# Altium footprint library gersh.PcbLib: 6 footprints
Each footprint in its own frame and in the unit in brackets; x right, y up, seen from the top. Pads: shape width x height; smd on the part's side, far side on the other; paste and mask are expansions set on the pad; w line width, h text height; cw(c..) or ccw(c..) is an arc to the next point about the centre after c.
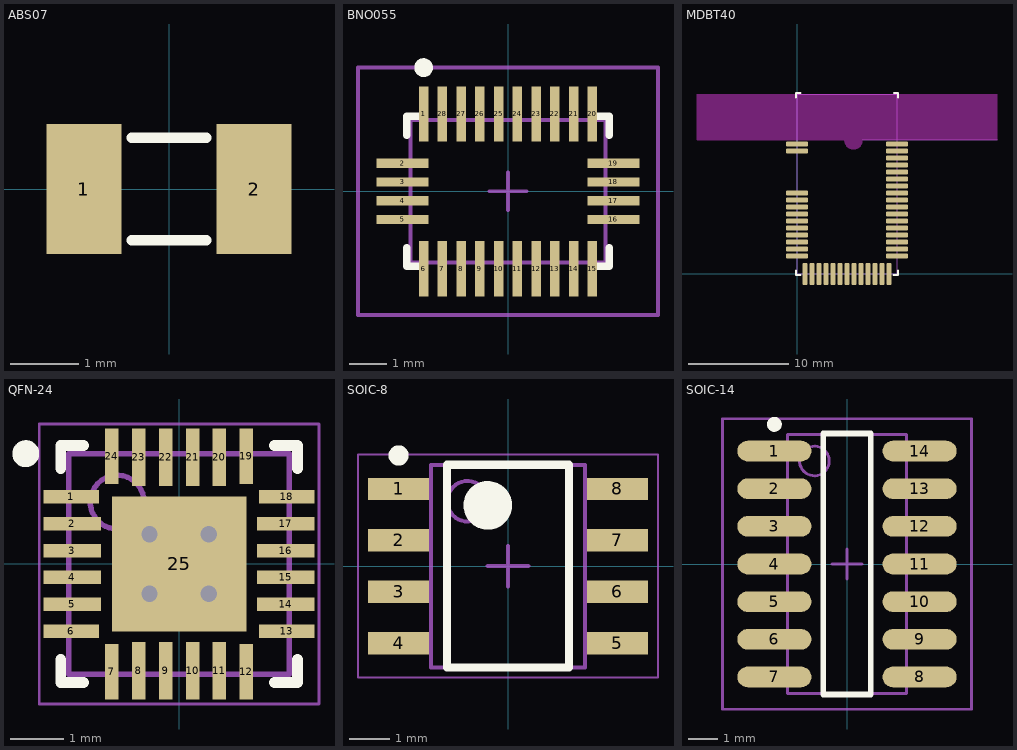
[diagram p0: the footprints below, top view; thin cyan lines are the x and y axes]

## ABS07 [mm] "Crystal Oscillator"
height 0.9
pads (2):
  rect 1.1x1.9 smd: 1(-1.25,0) 2(1.25,0)
Top Overlay:
  lines w0.152: -0.55,-0.75 0.55,-0.75 ; -0.55,0.75 0.55,0.75
3D body "TXC_Crystal.STEP": height 0.72, standoff 0, extent -1.6,-0.75 1.6,0.75

## BNO055 [mm] "28-Leads, Body 5.2x3.8mm, Pitch 0.5mm"
height 1
pads (28):
  rect 0.25x1.475 smd: 1(-2.25,2.063) 6(-2.25,-2.063) 7(-1.75,-2.063) 8(-1.25,-2.063) 9(-0.75,-2.063) 10(-0.25,-2.063) 11(0.25,-2.063) 12(0.75,-2.063) 13(1.25,-2.063) 14(1.75,-2.063) 15(2.25,-2.063) 20(2.25,2.063) 21(1.75,2.063) 22(1.25,2.063) 23(0.75,2.063) 24(0.25,2.063) 25(-0.25,2.063) 26(-0.75,2.063) 27(-1.25,2.063) 28(-1.75,2.063)
  rect 1.375x0.25 smd: 2(-2.813,0.75) 3(-2.813,0.25) 4(-2.813,-0.25) 5(-2.813,-0.75) 16(2.813,-0.75) 17(2.813,-0.25) 18(2.813,0.25) 19(2.813,0.75)
Top Overlay:
  circle w0.25: c-2.25,3.3 r0.125
  lines w0.2: -2.7,-1.5 -2.7,-2 -2.3,-2 ; -2.7,1.5 -2.7,2 -2.3,2 ; 2.3,-2 2.7,-2 2.7,-1.5 ; 2.3,2 2.7,2 2.7,1.5
Mechanical 13:
  lines w0.1: -2.6,-1.9 -2.6,1.9 2.6,1.9 2.6,-1.9 -2.6,-1.9
Mechanical 15:
  lines w0.1: -0.5,0 0.5,0 ; 0,-0.5 0,0.5 ; -4,-3.3 4,-3.3 4,3.3 -4,3.3 -4,-3.3
3D body: height 1.18, standoff 0.18, extent -2.575,-1.9 2.6,1.9

## MDBT40 [mm] "nRF51822 module"
height 2
pads (42):
  rrect50% 2.2x0.5 smd: 1(0,13) 2(0,12.3) 3(0,8.1) 4(0,7.4) 5(0,6.7) 6(0,6) 7(0,5.3) 8(0,4.6) 9(0,3.9) 10(0,3.2) 11(0,2.5) 12(0,1.8) 26(10,1.8) 27(10,2.5) 28(10,3.2) 29(10,3.9) 30(10,4.6) 31(10,5.3) 32(10,6) 33(10,6.7) 34(10,7.4) 35(10,8.1) 36(10,8.8) 37(10,9.5) 38(10,10.2) 39(10,10.9) 40(10,11.6) 41(10,12.3) 42(10,13)
  rrect50% 0.5x2.2 smd: 13(0.8,0) 14(1.5,0) 15(2.2,0) 16(2.9,0) 17(3.6,0) 18(4.3,0) 19(5,0) 20(5.7,0) 21(6.4,0) 22(7.1,0) 23(7.8,0) 24(8.5,0) 25(9.2,0)
Top Overlay:
  lines w0.2: -0.1,0.325 -0.1,-0.1 0.325,-0.1 ; -0.1,17.675 -0.1,18.1 0.325,18.1 ; 9.675,-0.1 10.1,-0.1 10.1,0.325 ; 9.675,18.1 10.1,18.1 10.1,17.675
Keep-Out Layer:
  pour cut-out: -10,13.4 4.75,13.4 4.75,13.282 4.811,13.053 4.93,12.847 5.097,12.68 5.303,12.561 5.532,12.5 5.768,12.5 5.997,12.561 6.203,12.68 6.37,12.847 6.489,13.053 6.55,13.282 6.55,13.4 20,13.4 20,18 -10,18
  lines w0.1: -10,13.4 -10,18 ; 4.75,13.4 ccw(c5.65,13.4) 6.55,13.4 ; 20,13.4 20,18
Keep-Out Layer:
  lines w0.1: -10,13.4 4.75,13.4 ; -10,18 20,18
Mechanical 13:
  lines w0.1: 6.55,13.4 20,13.4 ; 0,0 10,0 10,18 0,18 0,0
3D body "MDBT40 Bluetooth.step": height 3.01, standoff -0.01, extent 0,0 10,18

## QFN-24 [mm] "QFN 24-Leads IPC Medium, modified slightly"
height 0.85
pads (25):
  rect 1.029x0.25 smd: 1(-2.002,1.25) 6(-2.002,-1.25) 13(2.002,-1.25) 18(2.002,1.25)
  rect 1.067x0.25 smd: 2(-1.983,0.75) 3(-1.983,0.25) 4(-1.983,-0.25) 5(-1.983,-0.75) 14(1.983,-0.75) 15(1.983,-0.25) 16(1.983,0.25) 17(1.983,0.75)
  rect 0.25x1.029 smd: 7(-1.25,-2.002) 12(1.25,-2.002) 19(1.25,2.002) 24(-1.25,2.002)
  rect 0.25x1.067 smd: 8(-0.75,-1.983) 9(-0.25,-1.983) 10(0.25,-1.983) 11(0.75,-1.983) 20(0.75,1.983) 21(0.25,1.983) 22(-0.25,1.983) 23(-0.75,1.983)
  rect 2.5x2.5 smd: 25(0,0)
via 0.55,0.55 diameter 0.61 hole 0.305
via 0.55,-0.55 diameter 0.61 hole 0.305
via -0.55,-0.55 diameter 0.61 hole 0.305
via -0.55,0.55 diameter 0.61 hole 0.305
Top Overlay:
  circle w0.25: c-2.85,2.05 r0.125
  lines w0.2: -2.2,-1.775 -2.2,-2.2 -1.775,-2.2 ; -2.2,1.775 -2.2,2.2 -1.775,2.2 ; 1.775,-2.2 2.2,-2.2 2.2,-1.775 ; 1.775,2.2 2.2,2.2 2.2,1.775
Mechanical 13:
  circle w0.1: c-1.15,1.15 r0.5
  lines w0.1: -2.05,-2.05 -2.05,2.05 2.05,2.05 2.05,-2.05 -2.05,-2.05
Mechanical 15:
  lines w0.05: -2.6,-2.6 -2.6,2.6 2.6,2.6 2.6,-2.6 -2.6,-2.6
  lines w0.1: -0.5,0 0.5,0 ; 0,-0.5 0,0.5
3D body: height 0.85, standoff 0.02, extent -2.05,-2.05 2.05,2.05

## SOIC-8 [mm] "SOIC, 8-Leads, Body 4.90x3.90mm, Pitch 1.27mm, IPC Medium Density"
height 1.75
pads (8):
  rect 1.5x0.55 smd: 1(-2.7,1.905) 2(-2.7,0.635) 3(-2.7,-0.635) 4(-2.7,-1.905) 5(2.7,-1.905) 6(2.7,-0.635) 7(2.7,0.635) 8(2.7,1.905)
Top Overlay:
  circle w0.6: c-0.5,1.5 r0.3
  circle w0.25: c-2.7,2.73 r0.125
  lines w0.2: -1.5,-2.5 1.5,-2.5 1.5,2.5 -1.5,2.5 -1.5,-2.5
Mechanical 13:
  circle w0.1: c-1,1.6 r0.5
  lines w0.1: -1.9,-2.5 1.9,-2.5 1.9,2.5 -1.9,2.5 -1.9,-2.5
Mechanical 15:
  lines w0.05: -3.7,-2.75 3.7,-2.75 3.7,2.75 -3.7,2.75 -3.7,-2.75
  lines w0.1: -0.5,0 0.5,0 ; 0,-0.5 0,0.5
3D body "User Library-SOIC-8.STEP": height 1.75, standoff 0, extent -2.975,-2.525 3.037,2.475

## SOIC-14 [mm] "SOIC, 14-Leads, Body 8.7x3.9mm, Pitch 1.27mm, IPC Low Density"
height 1.75
pads (14):
  oval 2.5x0.7 smd: 1(-2.45,3.81) 2(-2.45,2.54) 3(-2.45,1.27) 4(-2.45,0) 5(-2.45,-1.27) 6(-2.45,-2.54) 7(-2.45,-3.81) 8(2.45,-3.81) 9(2.45,-2.54) 10(2.45,-1.27) 11(2.45,0) 12(2.45,1.27) 13(2.45,2.54) 14(2.45,3.81)
Top Overlay:
  circle w0.25: c-2.45,4.71 r0.125
  lines w0.2: -0.8,-4.4 0.8,-4.4 0.8,4.4 -0.8,4.4 -0.8,-4.4
Mechanical 13:
  circle w0.1: c-1.1,3.475 r0.5
  lines w0.1: -2,-4.375 2,-4.375 2,4.375 -2,4.375 -2,-4.375
Mechanical 15:
  lines w0.1: -0.5,0 0.5,0 ; 0,-0.5 0,0.5 ; -4.2,-4.9 4.2,-4.9 4.2,4.9 -4.2,4.9 -4.2,-4.9
3D body "User Library-so14p865x390ll600ls127h155.step": height 1.55, standoff 0, extent -3,-4.325 3,4.325